# Altium footprint library H204_.PcbLib: 39 footprints (part 3 of 3)
Each footprint in its own frame and in the unit in brackets; x right, y up, seen from the top. Pads: shape width x height; smd on the part's side, far side on the other; paste and mask are expansions set on the pad; w line width, h text height; cw(c..) or ccw(c..) is an arc to the next point about the centre after c.
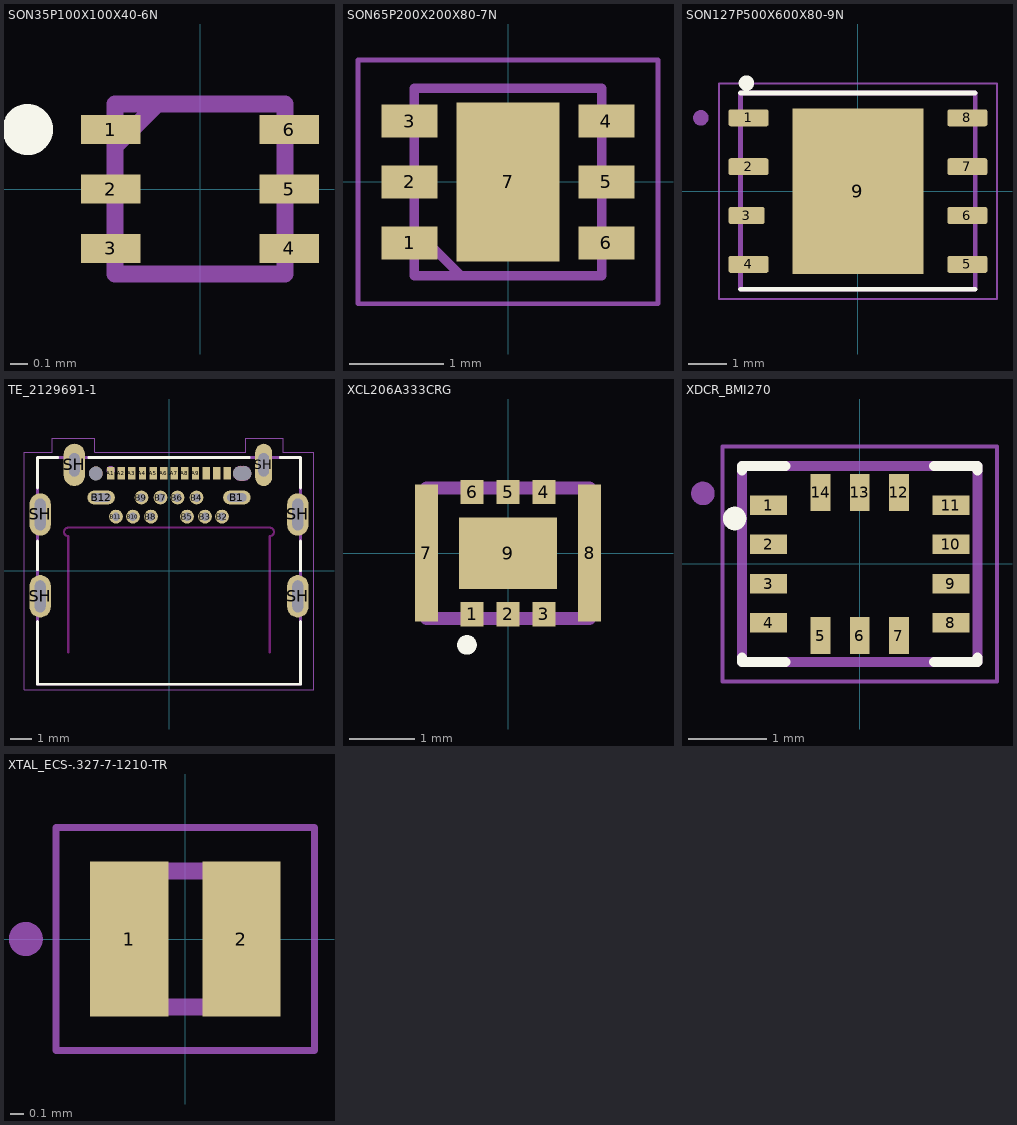
[diagram p2: the footprints below, top view; thin cyan lines are the x and y axes]

## SON35P100X100X40-6N [mm]
height 0.9
pads (6):
  rect 0.35x0.17 smd: 1(-0.525,0.35) 2(-0.525,0) 3(-0.525,-0.35) 4(0.525,-0.35) 5(0.525,0) 6(0.525,0.35)
Top Overlay:
  circle w0.2: c-1.016,0.35 r0.05
Mechanical 13:
  lines w0.1: -0.5,0.25 -0.25,0.5 ; -0.5,-0.5 -0.5,0.5 0.5,0.5 0.5,-0.5 -0.5,-0.5
3D body "TPD5E003DPFR.stp": height 0.5, standoff 0, extent -0.5,-0.5 0.5,0.5

## SON65P200X200X80-7N [mm]
height 3.56
pads (7):
  rect 0.6x0.35 smd: 1(-1.05,-0.65) 2(-1.05,0) 3(-1.05,0.65) 4(1.05,0.65) 5(1.05,0) 6(1.05,-0.65)
  rect 1.1x1.7 smd paste-2 mask-2: 7(0,0)
Bottom Overlay:
  circle w0.25: c-1.35,-1.325 r0.125
Mechanical 13:
  lines w0.1: -1,-0.5 -0.5,-1 ; -1,-1 -1,1 1,1 1,-1 -1,-1
Mechanical 15:
  lines w0.05: -1.6,-1.3 -1.6,1.3 1.6,1.3 1.6,-1.3 -1.6,-1.3
3D body "TMP117MAIDRVT.stp": height 0.8, standoff 0, extent -1.05,-1 1.05,1

## SON127P500X600X80-9N [mm]
pads (9):
  rrect25% 1.04x0.44 smd: 1(-2.845,1.905) 2(-2.845,0.635) 4(-2.845,-1.905) 5(2.845,-1.905) 6(2.845,-0.635) 7(2.845,0.635) 8(2.845,1.905)
  rrect25% 0.94x0.44 smd: 3(-2.895,-0.635)
  rect 3.4x4.3 smd paste-3: 9(0,0)
Top Overlay:
  circle w0.2: c-2.9,2.81 r0.1
  lines w0.127: -3.05,-2.55 3.05,-2.55 ; -3.05,2.55 3.05,2.55
Top Paste:
  region: 1.08,-1.36 -1.08,-1.36 -1.08,1.36 1.08,1.36
Mechanical 13:
  circle w0.2: c-4.085,1.905 r0.1
  lines w0.127: -3.05,-2.55 -3.05,2.55 3.05,2.55 3.05,-2.55 -3.05,-2.55
Mechanical 15:
  lines w0.05: -3.615,-2.8 -3.615,2.8 3.615,2.8 3.615,-2.8 -3.615,-2.8
3D body: height 0.8, standoff 0, extent -3.048,-2.54 3.048,2.54

## TE_2129691-1 [mm]
height 0.9
pads (32):
  rect 0.35x0.6 smd: A1(-2.75,4.6) A2(-2.25,4.6) A3(-1.75,4.6) A4(-1.25,4.6) A5(-0.75,4.6) A6(-0.25,4.6) A7(0.25,4.6) A8(0.75,4.6) A9(1.25,4.6) A10(1.75,4.6) A11(2.25,4.6) A12(2.75,4.6)
  oval 1.3x0.65 hole 0.4 slot 0.9 at 0 deg: B1(3.2,3.46) B12(-3.2,3.46)
  round 0.65 hole 0.4: B2(2.5,2.56) B3(1.7,2.56) B4(1.3,3.46) B5(0.85,2.56) B6(0.4,3.46) B7(-0.4,3.46) B8(-0.85,2.56) B9(-1.3,3.46) B10(-1.7,2.56) B11(-2.5,2.56)
  oval 1x2 hole 0.5 slot 1.5 at 90 deg: SH(-6.075,-1.2) SH(-6.075,2.66) SH(6.075,-1.2) SH(6.075,2.66)
  oval 1x2 hole 0.5 slot 1.1 at 90 deg: SH(-4.465,5)
  oval 0.8x2 hole 0.5 slot 1.1 at 90 deg: SH(4.465,5)
  round 0.65 hole 0.65 unplated: ""(-3.45,4.6)
  oval 0.85x0.65 hole 0.65 slot 0.85 at 0.85 deg unplated: ""(3.45,4.6)
Top Overlay:
  lines w0.127: -6.2,-2.39 -6.2,-5.35 6.2,-5.35 6.2,-2.39 ; -6.2,0.06 -6.2,1.41 ; -6.2,3.91 -6.2,5.35 -5.25,5.35 ; -3.78,5.35 3.78,5.35 ; 5.25,5.35 6.2,5.35 6.2,3.91 ; 6.2,0.01 6.2,1.41
Keep-Out Layer:
  lines w0.1: -4.75,-3.85 -4.75,1.64 cw(c-4.75,1.84) -4.75,2.04 4.75,2.04 cw(c4.75,1.84) 4.75,1.64 4.75,-3.85
Mechanical 1:
  lines w0: 3.025,4.598 cw(c3.357,4.593) 3.363,4.925 ; 3.025,4.602 ccw(c3.357,4.607) 3.363,4.275 ; 3.365,4.275 3.535,4.275 ; 3.365,4.925 3.535,4.925 ; 3.537,4.275 ccw(c3.542,4.607) 3.875,4.602 ; 3.537,4.925 cw(c3.542,4.593) 3.875,4.598
Mechanical 13:
  circle w0.2: c-2.75,4.75 r0.1
  lines w0.127: -6.2,-5.35 6.2,-5.35 6.2,5.35 -6.2,5.35 -6.2,-5.35
Mechanical 15:
  lines w0.05: -6.83,-5.6 6.83,-5.6 6.83,5.6 5.375,5.6 5.375,6.25 3.625,6.25 3.625,5.6 -3.5,5.6 -3.5,6.25 -5.5,6.25 -5.5,5.6 -6.83,5.6 -6.83,-5.6
3D body "2129691-1--3DModel-STEP-56544.STEP": height 2.25, standoff -1.08, extent -6.175,-5.35 6.175,5.35

## XCL206A333CRG [mm]
height 0.9
pads (9):
  rect 0.35x0.375 smd: 1(-0.55,-0.938) 2(0,-0.938) 3(0.55,-0.938) 4(0.55,0.938) 5(0,0.938) 6(-0.55,0.938)
  rect 0.35x2.1 smd: 7(-1.25,0) 8(1.25,0)
  rect 1.5x1.1 smd: 9(0,0)
Top Overlay:
  lines w0.2: -0.679,-1.407 ccw(c-0.629,-1.407) -0.579,-1.407 ; -0.679,-1.407 cw(c-0.629,-1.407) -0.579,-1.407 ; -0.679,-1.407 ccw(c-0.629,-1.407) -0.579,-1.407
Mechanical 13:
  lines w0.2: -1.25,-1 1.25,-1 1.25,1 -1.25,1 -1.25,-1
3D body: height 1, standoff 0, extent -1.25,-1 1.25,1

## XDCR_BMI270 [mm]
pads (14):
  rect 0.475x0.25 smd: 1(-1.162,0.75) 2(-1.162,0.25) 3(-1.162,-0.25) 4(-1.162,-0.75) 8(1.162,-0.75) 9(1.162,-0.25) 10(1.162,0.25) 11(1.162,0.75)
  rect 0.25x0.475 smd: 5(-0.5,-0.913) 6(0,-0.913) 7(0.5,-0.913) 12(0.5,0.913) 13(0,0.913) 14(-0.5,0.913)
Top Overlay:
  circle w0.15: c-1.596,0.58 r0.075
  lines w0.127: -1.5,-1.195 -1.5,-1.25 -0.945,-1.25 ; -1.5,1.195 -1.5,1.25 -0.945,1.25 ; 0.945,-1.25 1.5,-1.25 1.5,-1.195 ; 0.945,1.25 1.5,1.25 1.5,1.195
Mechanical 13:
  circle w0.15: c-2,0.9 r0.075
  lines w0.127: -1.5,-1.25 1.5,-1.25 1.5,1.25 -1.5,1.25 -1.5,-1.25
Mechanical 15:
  lines w0.05: -1.75,-1.5 -1.75,1.5 1.75,1.5 1.75,-1.5 -1.75,-1.5
3D body: height 0.8, standoff 0, extent -1.524,-1.27 1.524,1.27

## XTAL_ECS-.327-7-1210-TR [mm]
pads (2):
  rect 0.575x1.14 smd: 1(-0.413,0) 2(0.413,0)
Mechanical 13:
  circle w0.15: c-1.173,0 r0.05
  lines w0.127: -0.6,-0.5 -0.6,0.5 0.6,0.5 0.6,-0.5 -0.6,-0.5
Mechanical 15:
  lines w0.05: -0.95,-0.82 -0.95,0.82 0.95,0.82 0.95,-0.82 -0.95,-0.82
3D body "ECS-.327-7-1210-TR.STEP": height 0.35, standoff 0, extent -0.6,-0.5 0.6,0.5